# EAGLE library part LT3092 (library James_custom)
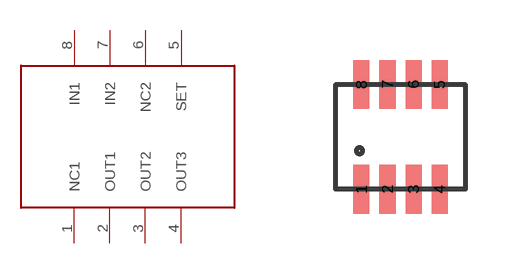
[diagram p25: symbol with the pads of TSOT-23; footprint TSOT-23]

Designator prefix -

## LT3092  [TSOT-23]
1  NC1
2  OUT1
3  OUT2
4  OUT3
5  SET
6  NC2
7  IN2
8  IN1

## Footprint TSOT-23 (pad centres in mm)
smd 0.4 x 1.22: 1 -0.65,-1.31; 2 0,-1.31; 3 0.65,-1.31; 4 1.3,-1.31; 5 1.3,1.31; 6 0.65,1.31; 7 0,1.31; 8 -0.65,1.31